# Altium schematic symbol library 55.13.8.110.0000.SchLib: 1 symbol
Pins are listed as number, name and electrical type; pins without a type are passive.

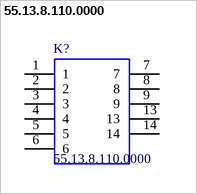
[diagram p0: symbol 55.13.8.110.0000]

## 55.13.8.110.0000
designator K?
3CO, 3PDT PCB Mount Non-Latching Relay Through Hole, 110V ac; Manufacturer_Name: FINDER; Manufacturer_Part_Number: 55.13.8.110.0000; RS Part Number: 7083156P; RS Price/Stock: http://uk.rs-online.com/web/p/products/7083156P; Arrow Part Number: 55.13.8.110.0000; Arrow Price/Stock: http://uk.rs-online.com/web/p/products/7083156P; Datasheet Link: http://docs-emea.rs-online.com/webdocs/0e55/0900766b80e552e6.pdf
footprint 55.13
pins: 1, 2, 3, 4, 5, 6, 7, 8, 9, 13, 14